# Altium schematic symbol library Trans_NFET_ROHM_EM6K6T2R.SchLib: 1 symbol
Pins are listed as number, name and electrical type; pins without a type are passive.

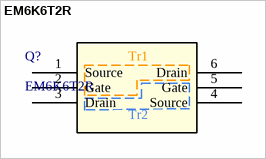
[diagram p0: symbol EM6K6T2R]

## EM6K6T2R
designator Q?
MOSFET Small Signal Dual N-CH 20V .3A .15W; Vendor: ROHM Semiconductor; Manufacturer_Part_Number: EM6K6T2R
footprint TRANS_EM6_ROM
pins: 1 Source, 2 Gate, 3 Drain, 4 Source, 5 Gate, 6 Drain
text: Tr1; Tr2